# EAGLE library part 64901821022 (library Wire-to-Board (rev18a))
WR-MPC4-4.20mm Male Dual Row Angled Header with Mounting Flanges for Screw-in Retention,18 pins=>Code : Con_WTB_MPC4_2_PCB_64901821022 <http://katalog.we-online.de/media/thumbs2/eican/thb_Con_WTB_MPC4_2_PCB_6490xx21022_pf2.jpg> Details see: http://katalog.we-online.de/en/em/MPC4_4_20_MALE_DUAL_ROW_ANGLED_HEADER_W_MOUNTING_FLANGES_6490XX21022 Created 2014-06-06, Karrer Zheng 2014 (C) Würth Elektronik
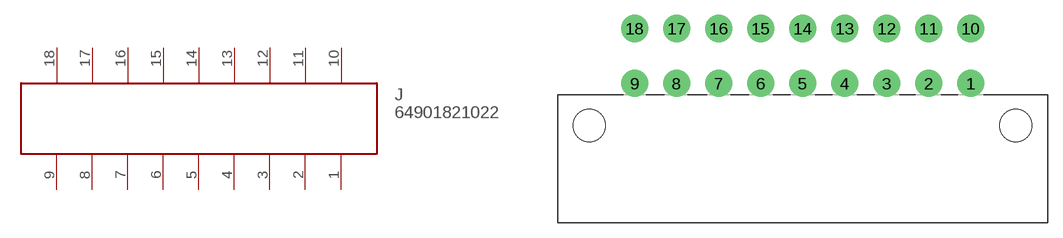
[diagram p305: symbol with the pads of 64901821022; footprint 64901821022]

Designator prefix J

## 64901821022  [64901821022]
1  1
2  2
3  3
4  4
5  5
6  6
7  7
8  8
9  9
10  10
11  11
12  12
13  13
14  14
15  15
16  16
17  17
18  18

## Footprint 64901821022 (pad centres in mm)
WR-MPC4-4.20mm Male Dual Row Angled Header with Mounting Flanges for Screw-in Retention,18 pins
drill 1.8: 1 16.8,4.2; 2 12.6,4.2; 3 8.4,4.2; 4 4.2,4.2; 5 0,4.2; 6 -4.2,4.2; 7 -8.4,4.2; 8 -12.6,4.2; 9 -16.8,4.2; 10 16.8,9.7; 11 12.6,9.7; 12 8.4,9.7; 13 4.2,9.7; 14 0,9.7; 15 -4.2,9.7; 16 -8.4,9.7; 17 -12.6,9.7; 18 -16.8,9.7
hole 3.2 at -21.3,0
hole 3.2 at 21.3,0